# Altium footprint library JSTXH-2.54mm-1X2-M-R.PcbLib: 1 footprints
Each footprint in its own frame and in the unit in brackets; x right, y up, seen from the top. Pads: shape width x height; smd on the part's side, far side on the other; paste and mask are expansions set on the pad; w line width, h text height; cw(c..) or ccw(c..) is an arc to the next point about the centre after c.
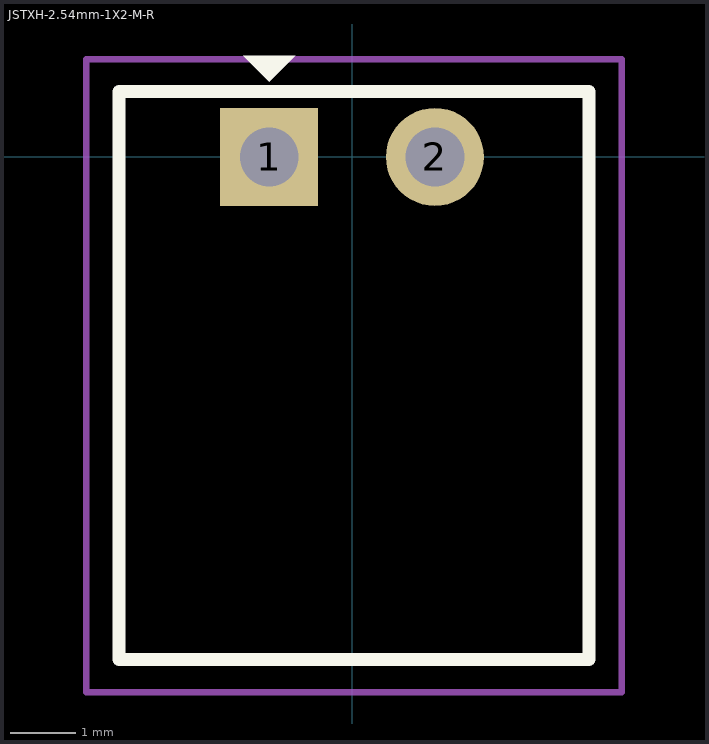
[diagram p0: the footprint, top view; thin cyan lines are the x and y axes]

## JSTXH-2.54mm-1X2-M-R [mm]
pads (2):
  rect 1.5x1.5 hole 0.9: 1(-1.27,0)
  round 1.5 hole 0.9: 2(1.27,0)
Top Overlay:
  region: -1.67,1.55 -0.87,1.55 -1.27,1.15
  lines w0.2: -3.57,-7.7 3.63,-7.7 3.63,1 -3.57,1 -3.57,-7.7
Top Courtyard:
  lines w0.1: -4.07,-8.2 -4.07,1.5 4.13,1.5 4.13,-8.2 -3.57,-8.2 -4.07,-8.2
3D body "JST - XH - Thru (R) - 2Pin - 2.54mm.stp": height 5.94, standoff -3.28, extent -3.577,-7.709 3.637,0.328